# Altium schematic symbol library PCB_Schematics.SchLib: 3 symbols
Pins are listed as number, name and electrical type; pins without a type are passive.

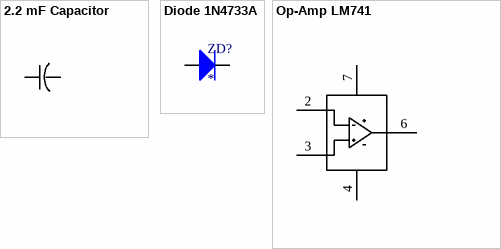
[diagram p0: symbols 2.2 mF Capacitor to Op-Amp LM741]

## 2.2 mF Capacitor
designator C?
footprint 2.2mF Capacitor
pins: 1, 2

## Diode 1N4733A
designator ZD?
footprint DO-41G
pins: 1, 2

## Op-Amp LM741
designator U?
footprint 8-DIP
pins: 2, 3, 4, 6, 7